# EAGLE library part ARDUINO_UNO_R3_SMT_BOTTOM (library stepOSP)
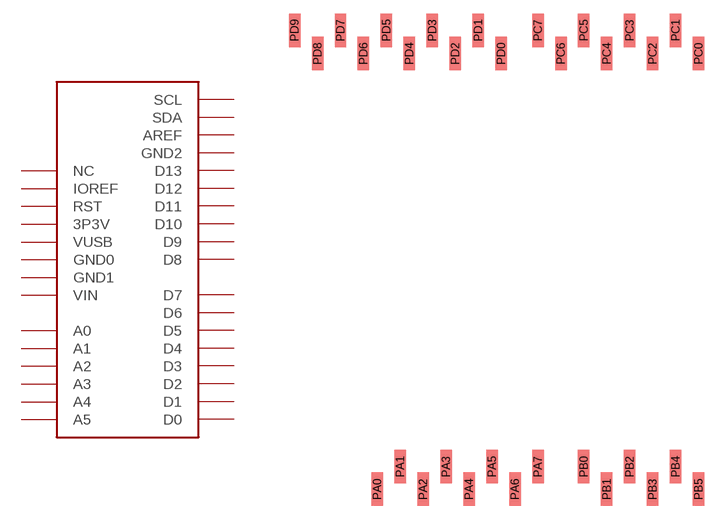
[diagram p51: symbol with the pads of ARDUINO_UNO_R3_SMT; footprint ARDUINO_UNO_R3_SMT]

Designator prefix -

## ARDUINO_UNO_R3_SMT_BOTTOM  [ARDUINO_UNO_R3_SMT]
PA0  NC
PA1  IOREF
PA2  RST
PA3  3P3V
PA4  VUSB
PA5  GND0
PA6  GND1
PA7  VIN
PB0  A0
PB1  A1
PB2  A2
PB3  A3
PB4  A4
PB5  A5
PC0  D0
PC1  D1
PC2  D2
PC3  D3
PC4  D4
PC5  D5
PC6  D6
PC7  D7
PD0  D8
PD1  D9
PD2  D10
PD3  D11
PD4  D12
PD5  D13
PD6  GND2
PD7  AREF
PD8  SDA
PD9  SCL

## Footprint ARDUINO_UNO_R3_SMT (pad centres in mm)
smd 1.27 x 3.7: PA0 27.94,1.29; PA1 30.48,3.79; PA2 33.02,1.29; PA3 35.56,3.79; PA4 38.1,1.29; PA5 40.64,3.79; PA6 43.18,1.29; PA7 45.72,3.79; PB0 50.8,3.79; PB1 53.34,1.29; PB2 55.88,3.79; PB3 58.42,1.29; PB4 60.96,3.79; PB5 63.5,1.29; PC0 63.5,49.51; PC1 60.96,52.09; PC2 58.42,49.51; PC3 55.88,52.09; PC4 53.34,49.51; PC5 50.8,52.09; PC6 48.26,49.51; PC7 45.72,52.09; PD0 41.656,49.51; PD1 39.116,52.09; PD2 36.576,49.51; PD3 34.036,52.09; PD4 31.496,49.51; PD5 28.956,52.09; PD6 26.416,49.51; PD7 23.876,52.09; PD8 21.336,49.51; PD9 18.796,52.09